# EAGLE library part MP6538 (library LARS_409_MC3)
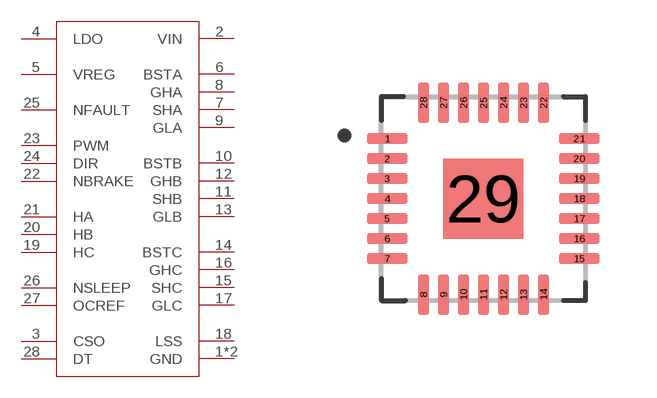
[diagram p27: symbol with the pads of QFN28; footprint QFN28]

Designator prefix MP6538

## MP6538  [QFN28]
1  GND
2  VIN
3  CSO
4  LDO
5  VREG
6  BSTA
7  SHA
8  GHA
9  GLA
10  BSTB
11  SHB
12  GHB
13  GLB
14  BSTC
15  SHC
16  GHC
17  GLC
18  LSS
19  HC
20  HB
21  HA
22  NBRAKE
23  PWM
24  DIR
25  NFAULT
26  NSLEEP
27  OCREF
28  DT
29  GND

## Footprint QFN28 (pad centres in mm)
28-QFN, 0.50 mm pitch, 5.00 X 5.00 X 1.00 mm body, 3.15 X 3.15 mm thermal pad 28-pin QFN package with 0.50 mm pitch with body size 5.00 X 5.00 X 1.00 mm and thermal pad size 3.15 X 3.15 mm
smd 1.01 x 0.27: 1 -2.4,1.5; 2 -2.4,1; 3 -2.4,0.5; 4 -2.4,0; 5 -2.4,-0.5; 6 -2.4,-1; 7 -2.4,-1.5; 15 2.4,-1.5; 16 2.4,-1; 17 2.4,-0.5; 18 2.4,0; 19 2.4,0.5; 20 2.4,1; 21 2.4,1.5
smd 0.27 x 1.01: 8 -1.5,-2.4; 9 -1,-2.4; 10 -0.5,-2.4; 11 0,-2.4; 12 0.5,-2.4; 13 1,-2.4; 14 1.5,-2.4; 22 1.5,2.4; 23 1,2.4; 24 0.5,2.4; 25 0,2.4; 26 -0.5,2.4; 27 -1,2.4; 28 -1.5,2.4
smd 2 x 2: 29 0,0